# EAGLE library part TL074_ (library ic)
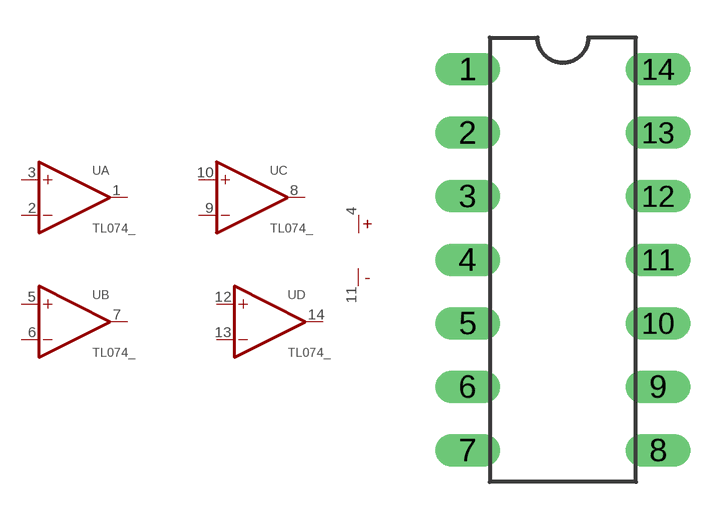
[diagram p38: symbol with the pads of DIL14; footprint DIL14]

Designator prefix -; gates A=OPAMP B=OPAMP C=OPAMP D=OPAMP G$5=PWR+-

## TL074_  [DIL14]
1  A:OUT  out
2  A:-IN  in
3  A:+IN  in
4  G$5:V+  pwr
5  B:+IN  in
6  B:-IN  in
7  B:OUT  out
8  C:OUT  out
9  C:-IN  in
10  C:+IN  in
11  G$5:V-  pwr
12  D:+IN  in
13  D:-IN  in
14  D:OUT  out

## Footprint DIL14 (pad centres in mm)
Dual In Line Package
drill 0.8 long: 1 -3.81,7.62; 2 -3.81,5.08; 3 -3.81,2.54; 4 -3.81,0; 5 -3.81,-2.54; 6 -3.81,-5.08; 7 -3.81,-7.62; 8 3.81,-7.62; 9 3.81,-5.08; 10 3.81,-2.54; 11 3.81,0; 12 3.81,2.54; 13 3.81,5.08; 14 3.81,7.62